# EAGLE library part RASPBERRY-PI (library RaspberryPi)
Raspberry Pi Board <http://www.raspberrypi.org/> Jacques Lagnel V1.0 (beta) 2012 Board dimension: Forum 3D model <http://www.raspberrypi.org/forum/general-discussion/mechanical-profile-3d-models?value=3d%20model&type=1&include=1&search=1&ret=all> The GPIO Connector (P1): http://elinux.org/RPi_Low-level_peripherals
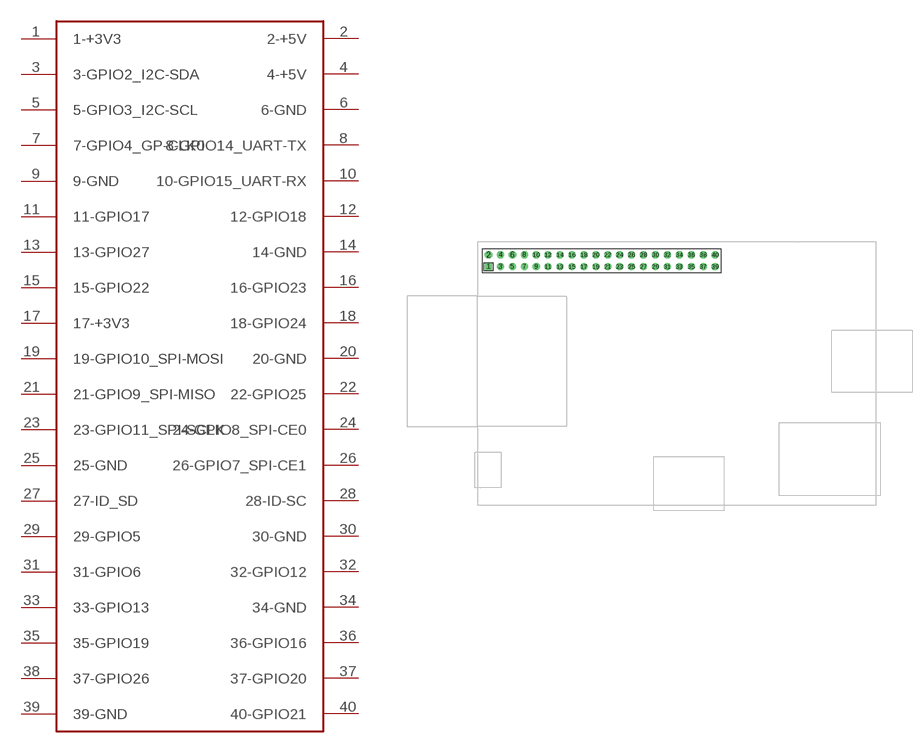
[diagram p0: symbol with the pads of RASPBERRY-PI; footprint RASPBERRY-PI]

Designator prefix -

## RASPBERRY-PI  [RASPBERRY-PI]
1  1-+3V3
2  2-+5V
3  3-GPIO2_I2C-SDA
4  4-+5V
5  5-GPIO3_I2C-SCL
6  6-GND
7  7-GPIO4_GP-CLK0
8  8-GPIO14_UART-TX
9  9-GND
10  10-GPIO15_UART-RX
11  11-GPIO17
12  12-GPIO18
13  13-GPIO27
14  14-GND
15  15-GPIO22
16  16-GPIO23
17  17-+3V3
18  18-GPIO24
19  19-GPIO10_SPI-MOSI
20  20-GND
21  21-GPIO9_SPI-MISO
22  22-GPIO25
23  23-GPIO11_SPI-SCLK
24  24-GPIO8_SPI-CE0
25  25-GND
26  26-GPIO7_SPI-CE1
27  27-ID_SD
28  28-ID-SC
29  29-GPIO5
30  30-GND
31  31-GPIO6
32  32-GPIO12
33  33-GPIO13
34  34-GND
35  35-GPIO19
36  36-GPIO16
37  37-GPIO20
38  37-GPIO26
39  39-GND
40  40-GPIO21

## Footprint RASPBERRY-PI (pad centres in mm)
drill 1 square: 1 0,0
drill 1 pad 1.676: 2 0,2.54; 6 5.08,2.54
drill 1: 3 2.54,0; 4 2.54,2.54; 5 5.08,0; 7 7.62,0; 8 7.62,2.54; 9 10.16,0; 10 10.16,2.54; 11 12.7,0; 12 12.7,2.54; 13 15.24,0; 14 15.24,2.54; 15 17.78,0; 16 17.78,2.54; 17 20.32,0; 18 20.32,2.54; 19 22.86,0; 20 22.86,2.54; 21 25.4,0; 22 25.4,2.54; 23 27.94,0; 24 27.94,2.54; 25 30.48,0; 26 30.48,2.54; 27 33.02,0; 28 33.02,2.54; 29 35.56,0; 30 35.56,2.54; 31 38.1,0; 32 38.1,2.54; 33 40.64,0; 34 40.64,2.54; 35 43.18,0; 36 43.18,2.54; 37 45.72,0; 38 45.72,2.54; 39 48.26,0; 40 48.26,2.54